# Altium schematic symbol library LTST-C193TBKT-5A.SchLib: 1 symbol
Pins are listed as number, name and electrical type; pins without a type are passive.

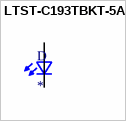
[diagram p0: symbol LTST-C193TBKT-5A]

## LTST-C193TBKT-5A
designator D
Blue 470nm LED Indication - Discrete 2.8V 0603 _1608 Metric_; MP: LTST-C193TBKT-5A; MF: Lite-On Inc.; Value: *; Digi-Key_Purchase_URL: https://www.digikey.com/product-detail/en/lite-on-inc/LTST-C193TBKT-5A/160-1827-1-ND/2355044?utm_source=snapeda&utm_medium=aggregator&utm_campaign=symbol; SnapEDA_Link: https://www.snapeda.com/parts/LTST-C193TBKT-5A/Lite-On%20Inc./view-part/350303/?ref=snap; Digi-Key_Part_Number: 160-1827-1-ND; Package: 0603 Lite-On
footprint 0603
pins: 1 K2, 2 A2